# Altium footprint library Relay.PcbLib: 2 footprints
Each footprint in its own frame and in the unit in brackets; x right, y up, seen from the top. Pads: shape width x height; smd on the part's side, far side on the other; paste and mask are expansions set on the pad; w line width, h text height; cw(c..) or ccw(c..) is an arc to the next point about the centre after c.
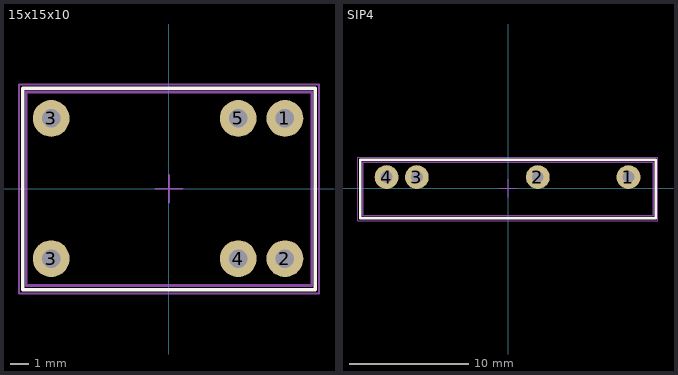
[diagram p0: the footprints below, top view; thin cyan lines are the x and y axes]

## 15x15x10 [mm]
height 1.12
pads (6):
  round 2 hole 1: 1(6.3,3.815) 2(6.3,-3.805) 3(-6.4,-3.805) 3(-6.4,3.815) 4(3.76,-3.805) 5(3.76,3.815)
Top Overlay:
  lines w0.2: -7.95,-5.495 -7.95,5.455 7.95,5.455 7.95,-5.495 -7.95,-5.495
Mechanical 9:
  text ".Designator" at -4.35,-7.895 h3
Mechanical 10:
  text ".Comment" at -4.25,-9.795 h2
Mechanical 11:
  lines w0.15: -7.75,-5.27 7.75,-5.27 7.75,5.255 -7.75,5.255 -7.75,-5.27
Mechanical 15:
  lines w0.1: -0.75,-0.005 0.75,-0.005 ; 0,-0.755 0,0.745 ; -8.15,-5.695 -8.15,5.655 8.15,5.655 8.15,-5.695 -8.15,-5.695
3D body "HK4100F.STEP": height 11.81, standoff -3.5, extent -7.75,-5.255 7.75,5.245

## SIP4 [mm]
height 1.12
pads (4):
  round 2 hole 1: 1(10.12,0.95) 2(2.5,0.95) 3(-7.66,0.95) 4(-10.2,0.95)
Top Overlay:
  lines w0.2: -12.4,-2.5 -12.4,2.4 12.4,2.4 12.4,-2.5 -12.4,-2.5
Mechanical 9:
  text ".Designator" at -5.8,3.3 h3
Mechanical 10:
  text ".Comment" at -4.3,-4.2 h2
Mechanical 11:
  lines w0.15: -12.2,-2.3 12.2,-2.3 12.2,2.2 -12.2,2.2 -12.2,-2.3
Mechanical 15:
  lines w0.1: -0.75,0 0.75,0 ; 0,-0.75 0,0.75 ; -12.6,-2.7 -12.6,2.6 12.6,2.6 12.6,-2.7 -12.6,-2.7
3D body "G3MC-202P.STEP": height 20.55, standoff -3.45, extent -12.25,-2.3 12.25,2.2